# Altium footprint library 8-WFDFN.PcbLib: 1 footprints
Each footprint in its own frame and in the unit in brackets; x right, y up, seen from the top. Pads: shape width x height; smd on the part's side, far side on the other; paste and mask are expansions set on the pad; w line width, h text height; cw(c..) or ccw(c..) is an arc to the next point about the centre after c.
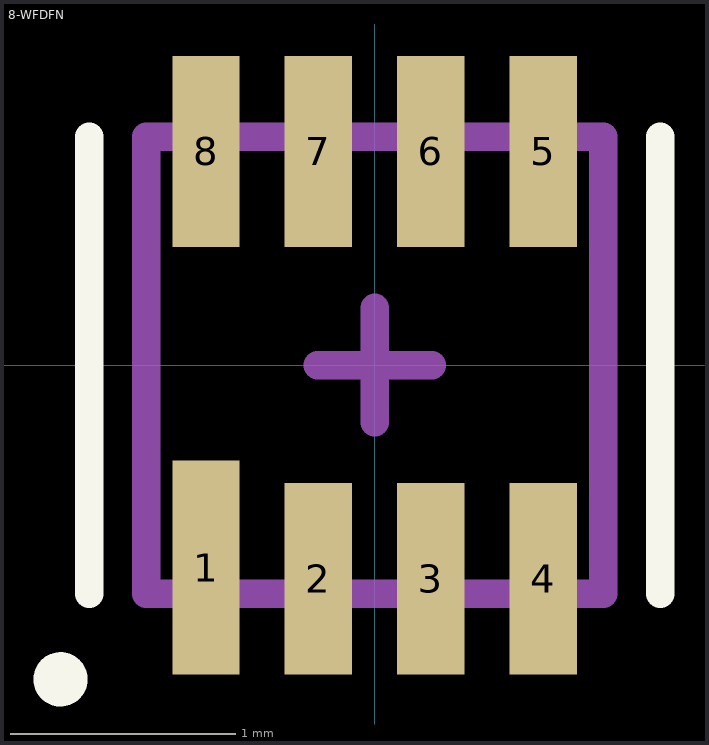
[diagram p0: the footprint, top view; thin cyan lines are the x and y axes]

## 8-WFDFN [mm]
pads (8):
  rect 0.3x0.95 smd mask+0.051: 1(-0.75,-0.9)
  rect 0.3x0.85 smd mask+0.051: 2(-0.25,-0.95) 3(0.25,-0.95) 4(0.75,-0.95) 5(0.75,0.95) 6(0.25,0.95) 7(-0.25,0.95) 8(-0.75,0.95)
Top Overlay:
  circle w0.127: c-1.397,-1.397 r0.057
  lines w0.127: -1.27,-1.016 -1.27,1.016 ; 1.27,-1.016 1.27,1.016
Mechanical 13:
  lines w0.127: -1.016,-1.016 1.016,-1.016 1.016,1.016 -1.016,1.016 -1.016,-1.016
Mechanical 15:
  lines w0.127: -0.254,0 0,0 ; 0,-0.254 0,0 ; 0,0.254 0,0 ; 0.254,0 0,0
3D body "21-0487A_MXM.step": height 0.83, standoff 0.02, extent -1.029,-1.029 1.029,1.029